# EAGLE library part SRF (library Ciseco Footprints)
SRF Wireless UART Serial Data Module. www.ciseco.co.uk
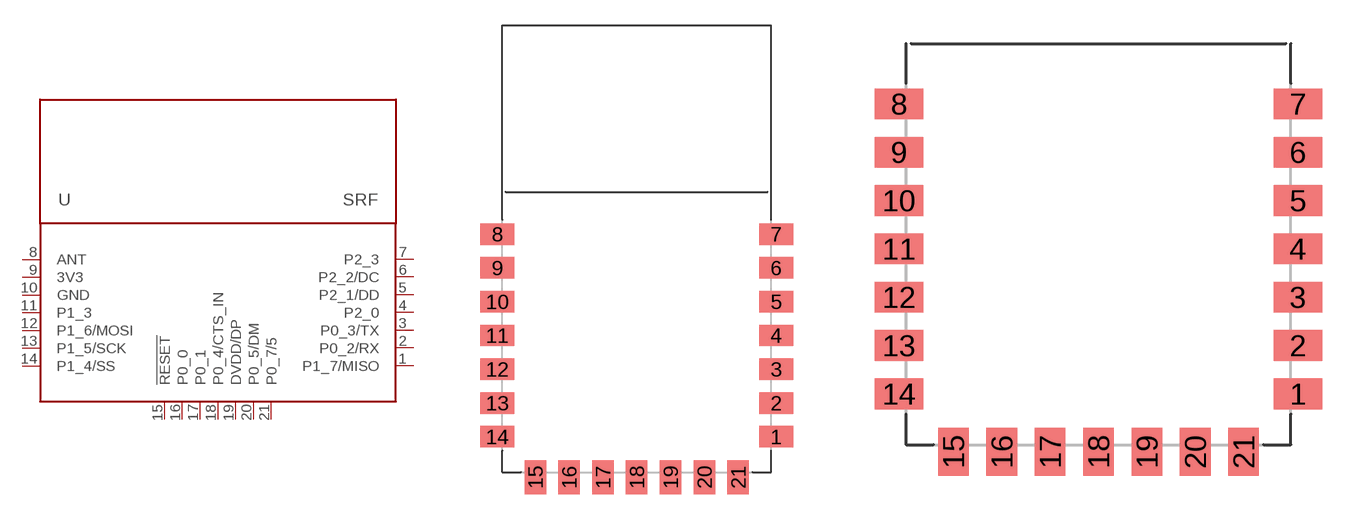
[diagram p0: symbol with the pads of SRF-LANDING; footprints SRF-LANDING, SRF-LANDING-NO-ANT]

Designator prefix U

## SRF-LANDING  [SRF-LANDING]
1  P1_7/MISO
2  P0_2/RX
3  P0_3/TX
4  P2_0
5  P2_1/DD
6  P2_2/DC
7  P2_3
8  ANT  out
9  3V3  pwr
10  GND  pwr
11  P1_3
12  P1_6/MOSI
13  P1_5/SCK
14  P1_4/SS
15  !RESET  in
16  P0_0
17  P0_1
18  P0_4/CTS_IN
19  DVDD/DP
20  P0_5/DM
21  P0_7/5

## SRF-LANDING-NO-ANT  [SRF-LANDING-NO-ANT]
Pads as for SRF-LANDING

## SRF-LANDING-1.0A  [SRF-LANDING-1.0A]
Pads as for SRF-LANDING

## SRF-LANDING-1.0A-MOVE  [SRF-LANDING-1.0A-MOVE]
Pads as for SRF-LANDING

## SRF-LANDING-NO-ANT-1.0A  [SRF-LANDING-NO-ANT-1.0A]
Pads as for SRF-LANDING

## SRF-LANDING-NO-ANT-1.0A-MOVE  [SRF-LANDING-NO-ANT-1.0A-MOVE]
Pads as for SRF-LANDING

## SRF-LANDING-1.2  [SRF-LANDING-1.2]
Pads as for SRF-LANDING

## SRF-LANDING-NO-ANT-1.2  [SRF-LANDING-NO-ANT-1.2]
Pads as for SRF-LANDING

## Footprint SRF-LANDING (pad centres in mm)
smd 2 x 1.27: 1 16.2,2; 2 16.2,4; 3 16.2,6; 4 16.2,8; 5 16.2,10; 6 16.2,12; 7 16.2,14; 8 -0.3,14; 9 -0.3,12; 10 -0.3,10; 11 -0.3,8; 12 -0.3,6; 13 -0.3,4; 14 -0.3,2
smd 1.27 x 2: 15 1.95,-0.4; 16 3.95,-0.4; 17 5.95,-0.4; 18 7.95,-0.4; 19 9.95,-0.4; 20 11.95,-0.4; 21 13.95,-0.4

## Footprint SRF-LANDING-NO-ANT (pad centres in mm)
smd 2 x 1.27: 1 16.2,2; 2 16.2,4; 3 16.2,6; 4 16.2,8; 5 16.2,10; 6 16.2,12; 7 16.2,14; 8 -0.3,14; 9 -0.3,12; 10 -0.3,10; 11 -0.3,8; 12 -0.3,6; 13 -0.3,4; 14 -0.3,2
smd 1.27 x 2: 15 1.95,-0.4; 16 3.95,-0.4; 17 5.95,-0.4; 18 7.95,-0.4; 19 9.95,-0.4; 20 11.95,-0.4; 21 13.95,-0.4

## Footprint SRF-LANDING-1.0A (pad centres in mm)
smd 2 x 1.27: 1 16.2,2; 2 16.2,4; 3 16.2,6; 4 16.2,8; 5 16.2,10; 6 16.2,12; 7 16.2,14; 8 -0.3,14; 9 -0.3,12; 10 -0.3,10; 11 -0.3,8; 12 -0.3,6; 13 -0.3,4; 14 -0.3,2
smd 1.27 x 2: 15 1.95,-0.4; 16 3.95,-0.4; 17 5.95,-0.4; 18 7.95,-0.4; 19 9.95,-0.4; 20 11.95,-0.4; 21 13.95,-0.4

## Footprint SRF-LANDING-1.0A-MOVE (pad centres in mm)
smd 2 x 1.27: 1 15.9,2; 2 15.9,4; 3 15.9,6; 4 15.9,8; 5 15.9,10; 6 15.9,12; 7 15.9,14; 8 0,14; 9 0,12; 10 0,10; 11 0,8; 12 0,6; 13 0,4; 14 0,2
smd 1.27 x 2: 15 1.95,-0.1; 16 3.95,-0.1; 17 5.95,-0.1; 18 7.95,-0.1; 19 9.95,-0.1; 20 11.95,-0.1; 21 13.95,-0.1

## Footprint SRF-LANDING-NO-ANT-1.0A (pad centres in mm)
smd 2 x 1.27: 1 15.9,2; 2 15.9,4; 3 15.9,6; 4 15.9,8; 5 15.9,10; 6 15.9,12; 7 15.9,14; 8 0,14; 9 0,12; 10 0,10; 11 0,8; 12 0,6; 13 0,4; 14 0,2
smd 1.27 x 2: 15 1.95,-0.1; 16 3.95,-0.1; 17 5.95,-0.1; 18 7.95,-0.1; 19 9.95,-0.1; 20 11.95,-0.1; 21 13.95,-0.1

## Footprint SRF-LANDING-NO-ANT-1.0A-MOVE (pad centres in mm)
smd 2 x 1.27: 1 15.9,2; 2 15.9,4; 3 15.9,6; 4 15.9,8; 5 15.9,10; 6 15.9,12; 7 15.9,14; 8 0,14; 9 0,12; 10 0,10; 11 0,8; 12 0,6; 13 0,4; 14 0,2
smd 1.27 x 2: 15 1.95,-0.1; 16 3.95,-0.1; 17 5.95,-0.1; 18 7.95,-0.1; 19 9.95,-0.1; 20 11.95,-0.1; 21 13.95,-0.1

## Footprint SRF-LANDING-1.2 (pad centres in mm)
smd 1.4 x 1.4: 1 15.9,2; 2 15.9,4; 3 15.9,6; 4 15.9,8; 5 15.9,10; 6 15.9,12; 7 15.9,14; 8 0,14; 9 0,12; 10 0,10; 11 0,8; 12 0,6; 13 0,4; 14 0,2; 15 1.95,-0.1; 16 3.95,-0.1; 17 5.95,-0.1; 18 7.95,-0.1; 19 9.95,-0.1; 20 11.95,-0.1; 21 13.95,-0.1

## Footprint SRF-LANDING-NO-ANT-1.2 (pad centres in mm)
smd 1.4 x 1.4: 1 15.9,2; 2 15.9,4; 3 15.9,6; 4 15.9,8; 5 15.9,10; 6 15.9,12; 7 15.9,14; 8 0,14; 9 0,12; 10 0,10; 11 0,8; 12 0,6; 13 0,4; 14 0,2; 15 1.95,-0.1; 16 3.95,-0.1; 17 5.95,-0.1; 18 7.95,-0.1; 19 9.95,-0.1; 20 11.95,-0.1; 21 13.95,-0.1